# Altium schematic symbol library chs-04ta.SchLib: 1 symbol
Pins are listed as number, name and electrical type; pins without a type are passive.

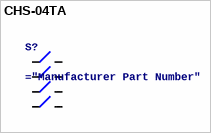
[diagram p0: symbol CHS-04TA]

## CHS-04TA
designator S?
DIP Switch, Slide, SPST, Flush, Recessed, 6VDC, 100mA, CHS Series | Nidec Components CHS-04TA
pins: 1, 2, 3, 4, 5, 6, 7, 8